# Altium footprint library Package_TO_SOT_THT.PcbLib: 236 footprints (part 8 of 15)
Each footprint in its own frame and in the unit in brackets; x right, y up, seen from the top. Pads: shape width x height; smd on the part's side, far side on the other; paste and mask are expansions set on the pad; w line width, h text height; cw(c..) or ccw(c..) is an arc to the next point about the centre after c.
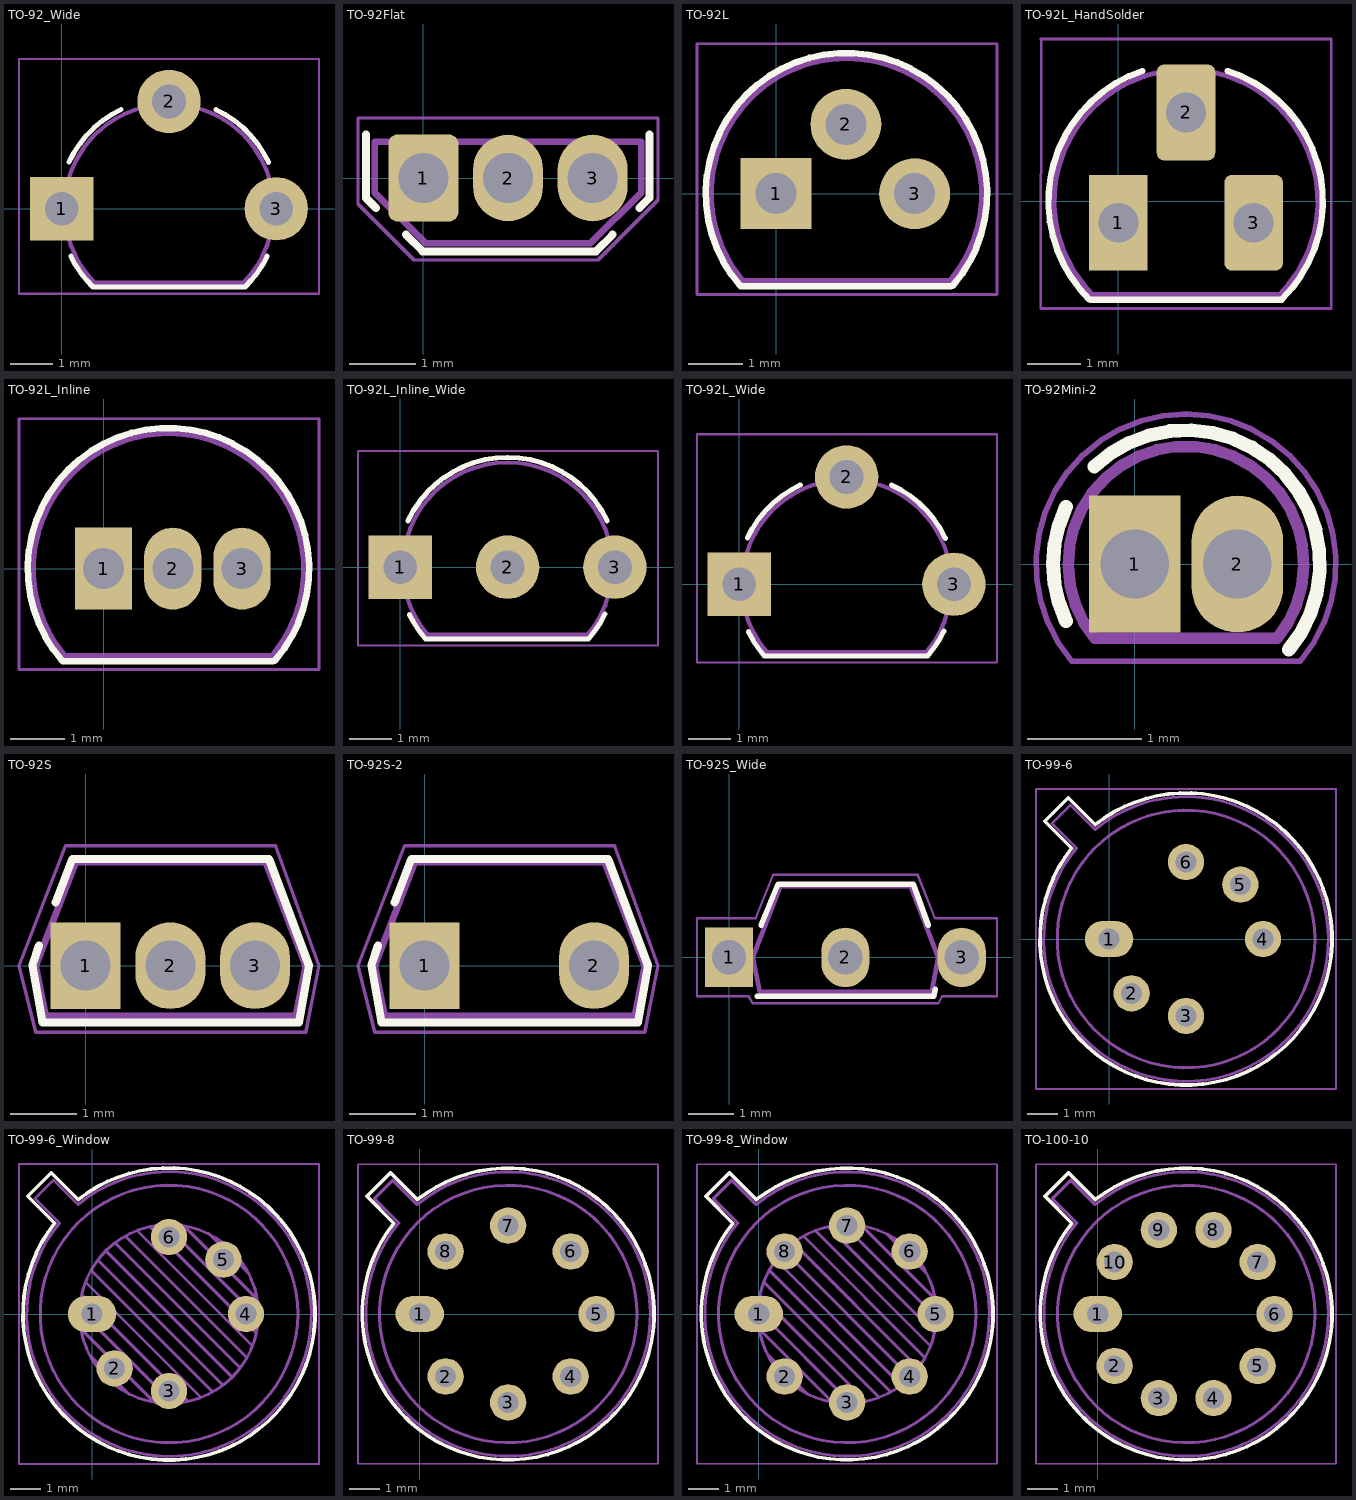
[diagram p7: the footprints below, top view; thin cyan lines are the x and y axes]

## TO-92_Wide [mm]
pads (3):
  rect 1.5x1.5 hole 0.8: 1(0,0)
  round 1.5 hole 0.8: 2(2.54,2.54) 3(5.08,0)
F.SilkS:
  lines w0.12: 0.173,1.104 cw(c2.54,0) 1.4,2.35 ; 0.216,-1.123 ccw(c2.54,0) 0.74,-1.85 4.34,-1.85 ccw(c2.54,0) 4.864,-1.123 ; 3.65,2.35 cw(c2.54,0) 4.895,1.098
F.CrtYd:
  lines w0.05: -1.01,-2.01 6.09,-2.01 6.09,3.55 -1.01,3.55 -1.01,-2.01
F.Fab:
  lines w0.1: 0.786,-1.754 cw(c2.54,0) 2.54,2.48 cw(c2.54,0) 4.294,-1.754 ; 0.8,-1.75 4.3,-1.75
  text "'.Designator'" at -1.507,-0.84 h1

## TO-92Flat [mm]
pads (3):
  rrect24% 1.05x1.3 hole 0.75: 1(0,0)
  rrect100% 1.05x1.3 hole 0.75: 2(1.27,0) 3(2.54,0)
F.SilkS:
  lines w0.12: -0.86,0.65 -0.86,-0.3 -0.71,-0.45 ; -0.26,-0.85 -0.01,-1.1 2.59,-1.1 2.84,-0.85 ; 3.24,-0.45 3.39,-0.3 3.39,0.65
F.CrtYd:
  lines w0.05: -0.98,-0.39 -0.14,-1.23 2.62,-1.23 3.52,-0.33 3.52,0.9 -0.98,0.9 -0.98,-0.39
F.Fab:
  lines w0.1: 0.03,-0.978 -0.73,-0.218 -0.73,0.543 3.27,0.543 3.27,-0.218 2.51,-0.978 ; 0.03,-0.978 2.51,-0.978 ; 0.03,-0.978 2.51,-0.978
  text "'.Designator'" at -1.588,-0.813 h0.7

## TO-92L [mm]
pads (3):
  rect 1.3x1.3 hole 0.75: 1(0,0)
  round 1.3 hole 0.75: 2(1.28,1.27) 3(2.54,0)
F.SilkS:
  lines w0.12: 3.2,-1.7 -0.65,-1.7 cw(c1.29,0) 3.239,-1.69
F.CrtYd:
  lines w0.05: -1.45,-1.85 4.05,-1.85 4.05,2.75 -1.45,2.75 -1.45,-1.85
F.Fab:
  lines w0.1: -0.603,-1.602 cw(c1.29,0) 1.29,2.48 cw(c1.29,0) 3.191,-1.593 ; -0.6,-1.6 3.15,-1.6
  text "'.Designator'" at -2.777,-0.84 h1

## TO-92L_HandSolder [mm]
pads (3):
  rect 1.1x1.8 hole 0.75: 1(0,-0.4)
  rrect25% 1.1x1.8 hole 0.75: 2(1.27,1.67) 3(2.54,-0.4)
F.SilkS:
  lines w0.12: -0.541,-1.842 cw(c1.27,0) 0.45,2.45 ; -0.53,-1.85 3.07,-1.85 ; 2.05,2.45 cw(c1.27,0) 3.078,-1.828
F.CrtYd:
  lines w0.05: -1.46,3.05 4,3.05 4,-2.01 -1.46,-2.01 -1.45,3.05
F.Fab:
  lines w0.1: -0.5,-1.75 3,-1.75 ; -0.484,-1.754 cw(c1.27,0) 1.27,2.48 cw(c1.27,0) 3.024,-1.754
  text "'.Designator'" at -2.777,-0.84 h1

## TO-92L_Inline [mm]
pads (3):
  rect 1.05x1.5 hole 0.75: 1(0,0)
  rrect100% 1.05x1.5 hole 0.75: 2(1.27,0) 3(2.54,0)
F.SilkS:
  lines w0.12: 3.1,-1.7 -0.75,-1.7 cw(c1.19,0) 3.139,-1.69
F.CrtYd:
  lines w0.05: -1.55,-1.85 -1.55,2.75 3.95,2.75 3.95,-1.85 -1.55,-1.85
F.Fab:
  lines w0.1: -0.703,-1.602 cw(c1.19,0) 1.19,2.48 cw(c1.19,0) 3.091,-1.593 ; -0.7,-1.6 3.05,-1.6
  text "'.Designator'" at -2.857,-0.84 h1

## TO-92L_Inline_Wide [mm]
pads (3):
  rect 1.5x1.5 hole 0.8: 1(0,0)
  round 1.5 hole 0.8: 2(2.54,0) 3(5.08,0)
F.SilkS:
  lines w0.12: 0.184,1.099 cw(c2.54,0) 2.54,2.6 cw(c2.54,0) 4.896,1.099 ; 0.217,-1.122 ccw(c2.54,0) 0.6,-1.7 4.45,-1.7 ccw(c2.54,0) 4.842,-1.112
F.CrtYd:
  lines w0.05: -1,-1.85 6.1,-1.85 6.1,2.75 -1,2.75 -1,-1.85
F.Fab:
  lines w0.1: 0.647,-1.602 cw(c2.54,0) 2.54,2.48 cw(c2.54,0) 4.441,-1.593 ; 0.65,-1.6 4.4,-1.6
  text "'.Designator'" at -1.507,-0.84 h1

## TO-92L_Wide [mm]
pads (3):
  rect 1.5x1.5 hole 0.8: 1(0,0)
  round 1.5 hole 0.8: 2(2.54,2.54) 3(5.08,0)
F.SilkS:
  lines w0.12: 0.192,1.095 cw(c2.54,0) 1.45,2.35 ; 0.217,-1.122 ccw(c2.54,0) 0.6,-1.7 4.45,-1.7 ccw(c2.54,0) 4.842,-1.112 ; 3.6,2.35 cw(c2.54,0) 4.876,1.09
B.CrtYd:
  lines w0.05: -1,-1.85 -1,3.55 6.1,3.55 6.1,-1.85 -1,-1.85
F.Fab:
  lines w0.1: 0.647,-1.602 cw(c2.54,0) 2.54,2.48 cw(c2.54,0) 4.441,-1.593 ; 0.65,-1.6 4.4,-1.6
  text "'.Designator'" at -1.507,-0.84 h1

## TO-92Mini-2 [mm]
pads (2):
  rect 0.8x1.2 hole 0.6: 1(0,0)
  rrect100% 0.8x1.2 hole 0.6: 2(0.9,0)
F.SilkS:
  lines w0.12: -0.6,-0.5 cw(c0.45,0) -0.6,0.5 ; -0.353,0.853 cw(c0.45,0) 1.35,-0.75
F.CrtYd:
  lines w0.05: -0.55,-0.85 1.45,-0.85 ccw(c0.45,0) -0.55,-0.849
F.Fab:
  lines w0.1: -0.35,-0.65 1.25,-0.65 ccw(c0.45,0) -0.35,-0.65
  text "'.Designator'" at -1.568,-0.415 h0.5

## TO-92S [mm]
pads (3):
  rect 1.05x1.3 hole 0.75: 1(0,0)
  rrect100% 1.05x1.3 hole 0.75: 2(1.27,0) 3(2.54,0)
F.SilkS:
  lines w0.12: -0.7,0.3 -0.8,0 -0.65,-0.85 3.2,-0.85 3.35,0 2.75,1.6 -0.2,1.6 -0.45,0.95
F.CrtYd:
  lines w0.05: -1,0 -0.75,-1 3.3,-1 3.5,0 2.85,1.8 -0.3,1.8 -1,0
F.Fab:
  lines w0.1: -0.75,0 -0.15,1.55 2.7,1.55 3.3,0 3.15,-0.75 -0.6,-0.75 -0.75,0
  text "'.Designator'" at -2.777,-0.84 h1

## TO-92S-2 [mm]
pads (2):
  rect 1.05x1.3 hole 0.75: 1(0,0)
  rrect100% 1.05x1.3 hole 0.75: 2(2.54,0)
F.SilkS:
  lines w0.12: -0.7,0.3 -0.8,0 -0.65,-0.85 3.2,-0.85 3.35,0 2.75,1.6 -0.2,1.6 -0.45,0.95
F.CrtYd:
  lines w0.05: -1,0 -0.75,-1 3.3,-1 3.5,0 2.85,1.8 -0.3,1.8 -1,0
F.Fab:
  lines w0.1: -0.75,0 -0.15,1.55 2.7,1.55 3.3,0 3.15,-0.75 -0.6,-0.75 -0.75,0
  text "'.Designator'" at -2.777,-0.84 h1

## TO-92S_Wide [mm]
pads (3):
  rect 1.05x1.3 hole 0.75: 1(0,0)
  rrect100% 1.05x1.3 hole 0.75: 2(2.54,0) 3(5.08,0)
F.SilkS:
  lines w0.12: 0.62,-0.85 4.47,-0.85 4.5,-0.7 ; 0.7,0.7 1.07,1.6 4.02,1.6 4.35,0.7
F.CrtYd:
  lines w0.05: -0.7,-0.85 -0.7,0.85 0.58,0.85 0.96,1.8 4.12,1.8 4.5,0.85 5.85,0.85 5.85,-0.85 4.65,-0.85 4.57,-1 0.51,-1 0.43,-0.85 -0.7,-0.85
F.Fab:
  lines w0.1: 0.52,0 0.67,-0.75 4.42,-0.75 4.57,0 3.97,1.55 1.12,1.55 0.52,0
  text "'.Designator'" at -1.507,-0.84 h1

## TO-99-6 [mm]
pads (6):
  rrect100% 1.6x1.2 hole 0.7: 1(0,0)
  rrect100% 1.2x1.2 hole 0.7: 2(0.744,-1.796) 3(2.54,-2.54) 4(5.08,0) 5(4.336,1.796) 6(2.54,2.54)
F.SilkS:
  lines w0.12: -2.126,3.888 -1.348,4.666 -0.457,3.775 cw(c2.54,0) -1.235,2.997 -2.126,3.888
F.CrtYd:
  lines w0.05: -2.41,-4.95 -2.41,4.95 7.49,4.95 7.49,-4.95 -2.41,-4.95
F.Fab:
  circle w0.1: c2.54,0 r4.25
  lines w0.1: -1.88,3.812 -1.272,4.42 -0.465,3.614 cw(c2.54,0) -1.074,3.005 -1.88,3.812
  text "'.Designator'" at -1.507,4.98 h1

## TO-99-6_Window [mm]
pads (6):
  rrect100% 1.6x1.2 hole 0.7: 1(0,0)
  rrect100% 1.2x1.2 hole 0.7: 2(0.744,-1.796) 3(2.54,-2.54) 4(5.08,0) 5(4.336,1.796) 6(2.54,2.54)
F.SilkS:
  lines w0.12: -2.126,3.888 -1.348,4.666 -0.457,3.775 cw(c2.54,0) -1.235,2.997 -2.126,3.888
F.CrtYd:
  lines w0.05: -2.41,-4.95 -2.41,4.95 7.49,4.95 7.49,-4.95 -2.41,-4.95
F.Fab:
  circle w0.1: c2.54,0 r4.25
  circle w0.1: c2.54,0 r2.95
  lines w0.1: -0.408,0.12 2.66,-2.948 ; -0.371,-0.485 2.055,-2.911 ; -0.344,0.622 3.162,-2.884 ; -0.215,1.058 3.598,-2.755 ; -0.097,-1.324 1.216,-2.637 ; -0.034,1.443 3.983,-2.574 ; 0.19,1.784 4.324,-2.35 ; 0.454,2.086 4.626,-2.086 ; 0.756,2.35 4.89,-1.784 ; 1.097,2.574 5.114,-1.443 ; 1.482,2.755 5.295,-1.058 ; 1.918,2.884 5.424,-0.622 ; 2.42,2.948 5.488,-0.12 ; 3.025,2.911 5.451,0.485 ; 3.864,2.637 5.177,1.324 ; -1.88,3.812 -1.074,3.005 ccw(c2.54,0) -0.465,3.614 -1.272,4.42 -1.88,3.812
  text "'.Designator'" at -1.507,4.98 h1

## TO-99-8 [mm]
pads (8):
  rrect100% 1.6x1.2 hole 0.7: 1(0,0)
  rrect100% 1.2x1.2 hole 0.7: 2(0.855,-2.065) 3(2.92,-2.92) 4(4.985,-2.065) 5(5.84,0) 6(4.985,2.065) 7(2.92,2.92) 8(0.855,2.065)
F.SilkS:
  lines w0.12: -1.746,3.888 -0.968,4.666 -0.077,3.775 cw(c2.92,0) -0.855,2.997 -1.746,3.888
F.CrtYd:
  lines w0.05: -2.04,-4.95 7.87,-4.95 7.87,4.95 -2.04,4.95 -2.04,-4.95
F.Fab:
  circle w0.1: c2.92,0 r4.25
  lines w0.1: -1.5,3.812 -0.892,4.42 -0.085,3.614 cw(c2.92,0) -0.694,3.005 -1.5,3.812
  text "'.Designator'" at -1.127,4.98 h1

## TO-99-8_Window [mm]
pads (8):
  rrect100% 1.6x1.2 hole 0.7: 1(0,0)
  rrect100% 1.2x1.2 hole 0.7: 2(0.855,-2.065) 3(2.92,-2.92) 4(4.985,-2.065) 5(5.84,0) 6(4.985,2.065) 7(2.92,2.92) 8(0.855,2.065)
F.SilkS:
  lines w0.12: -1.746,3.888 -0.855,2.997 ccw(c2.92,0) -0.077,3.775 -0.968,4.666 -1.746,3.888
F.CrtYd:
  lines w0.05: -2.04,-4.95 7.87,-4.95 7.87,4.95 -2.04,4.95 -2.04,-4.95
F.Fab:
  circle w0.1: c2.92,0 r4.25
  circle w0.1: c2.92,0 r2.95
  lines w0.1: -0.028,0.12 3.04,-2.948 ; 0.009,-0.485 2.435,-2.911 ; 0.036,0.622 3.542,-2.884 ; 0.165,1.058 3.978,-2.755 ; 0.283,-1.324 1.596,-2.637 ; 0.346,1.443 4.363,-2.574 ; 0.57,1.784 4.704,-2.35 ; 0.834,2.086 5.006,-2.086 ; 1.136,2.35 5.27,-1.784 ; 1.477,2.574 5.494,-1.443 ; 1.862,2.755 5.675,-1.058 ; 2.298,2.884 5.804,-0.622 ; 2.8,2.948 5.868,-0.12 ; 3.405,2.911 5.831,0.485 ; 4.244,2.637 5.557,1.324 ; -1.5,3.812 -0.892,4.42 -0.085,3.614 cw(c2.92,0) -0.694,3.005 -1.5,3.812
  text "'.Designator'" at -1.127,4.98 h1

## TO-100-10 [mm]
pads (10):
  rrect100% 1.6x1.2 hole 0.7: 1(0,0)
  rrect100% 1.2x1.2 hole 0.7: 2(0.558,-1.716) 3(2.018,-2.777) 4(3.822,-2.777) 5(5.282,-1.716) 6(5.84,0) 7(5.282,1.716) 8(3.822,2.777) 9(2.018,2.777) 10(0.558,1.716)
F.SilkS:
  lines w0.12: -1.746,3.888 -0.968,4.666 -0.077,3.775 cw(c2.92,0) -0.855,2.997 -1.746,3.888
F.CrtYd:
  lines w0.05: -2.04,-4.95 7.87,-4.95 7.87,4.95 -2.04,4.95 -2.04,-4.95
F.Fab:
  circle w0.1: c2.92,0 r4.25
  lines w0.1: -1.5,3.812 -0.892,4.42 -0.085,3.614 cw(c2.92,0) -0.694,3.005 -1.5,3.812
  text "'.Designator'" at -1.127,4.98 h1